# Altium schematic symbol library CAP_NP.SCHLIB: 1 symbol
Pins are listed as number, name and electrical type; pins without a type are passive.

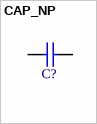
[diagram p0: symbol CAP_NP]

## CAP_NP
designator C?
pins: 1, 2
1 alternate drawing of the same symbol